# EAGLE library part FT4222HQ (library ftdi-chip)
BRIDGE USB TO I2C/SPI
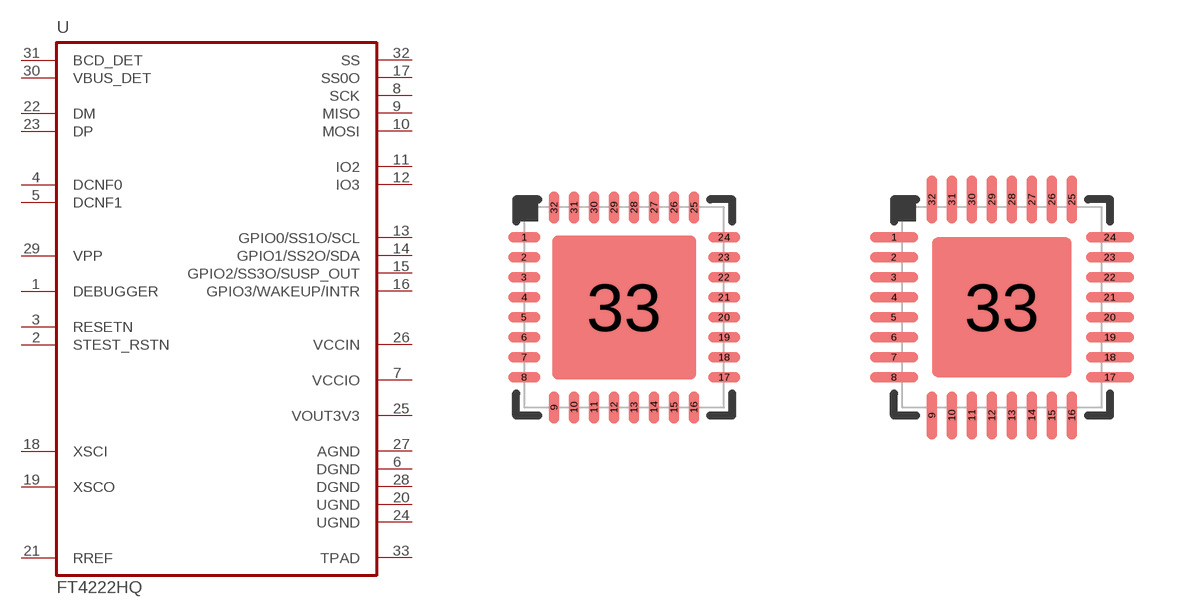
[diagram p11: symbol with the pads of VQFN32; footprints VQFN32, VQFN32L]

Designator prefix U

## FT4222HQ  [VQFN32]
1  DEBUGGER
2  STEST_RSTN  in
3  RESETN  in
4  DCNF0  in
5  DCNF1  in
6  DGND  pwr
7  VCCIO  pwr
8  SCK
9  MISO
10  MOSI
11  IO2
12  IO3
13  GPIO0/SS1O/SCL
14  GPIO1/SS2O/SDA
15  GPIO2/SS3O/SUSP_OUT
16  GPIO3/WAKEUP/INTR
17  SS0O  out
18  XSCI  in
19  XSCO  out
20  UGND  pwr
21  RREF  in
22  DM
23  DP
24  UGND  pwr
25  VOUT3V3  pwr
26  VCCIN  pwr
27  AGND  pwr
28  DGND  pwr
29  VPP  pwr
30  VBUS_DET  in
31  BCD_DET  out
32  SS  in
33  TPAD  pas

## FT4222HQL  [VQFN32L]
Pads as for VQFN32

## Footprint VQFN32 (pad centres in mm)
VQFN32 Quad Flat Package, 5x5 mm, 0.50 mm Pitch
smd 0.8 x 0.26: 1 -2.5,1.75; 2 -2.5,1.25; 3 -2.5,0.75; 4 -2.5,0.25; 5 -2.5,-0.25; 6 -2.5,-0.75; 7 -2.5,-1.25; 8 -2.5,-1.75; 17 2.5,-1.75; 18 2.5,-1.25; 19 2.5,-0.75; 20 2.5,-0.25; 21 2.5,0.25; 22 2.5,0.75; 23 2.5,1.25; 24 2.5,1.75
smd 0.26 x 0.8: 9 -1.75,-2.5; 10 -1.25,-2.5; 11 -0.75,-2.5; 12 -0.25,-2.5; 13 0.25,-2.5; 14 0.75,-2.5; 15 1.25,-2.5; 16 1.75,-2.5; 25 1.75,2.5; 26 1.25,2.5; 27 0.75,2.5; 28 0.25,2.5; 29 -0.25,2.5; 30 -0.75,2.5; 31 -1.25,2.5; 32 -1.75,2.5
smd 3.6 x 3.6: 33 0,0

## Footprint VQFN32L (pad centres in mm)
smd 1.2 x 0.26: 1 -2.7,1.75; 2 -2.7,1.25; 3 -2.7,0.75; 4 -2.7,0.25; 5 -2.7,-0.25; 6 -2.7,-0.75; 7 -2.7,-1.25; 8 -2.7,-1.75; 17 2.7,-1.75; 18 2.7,-1.25; 19 2.7,-0.75; 20 2.7,-0.25; 21 2.7,0.25; 22 2.7,0.75; 23 2.7,1.25; 24 2.7,1.75
smd 0.26 x 1.2: 9 -1.75,-2.7; 10 -1.25,-2.7; 11 -0.75,-2.7; 12 -0.25,-2.7; 13 0.25,-2.7; 14 0.75,-2.7; 15 1.25,-2.7; 16 1.75,-2.7; 25 1.75,2.7; 26 1.25,2.7; 27 0.75,2.7; 28 0.25,2.7; 29 -0.25,2.7; 30 -0.75,2.7; 31 -1.25,2.7; 32 -1.75,2.7
smd 3.5 x 3.5: 33 0,0